# Altium footprint library Connector_PinHeader_2.00mm.PcbLib: 278 footprints (part 14 of 18)
Each footprint in its own frame and in the unit in brackets; x right, y up, seen from the top. Pads: shape width x height; smd on the part's side, far side on the other; paste and mask are expansions set on the pad; w line width, h text height; cw(c..) or ccw(c..) is an arc to the next point about the centre after c.
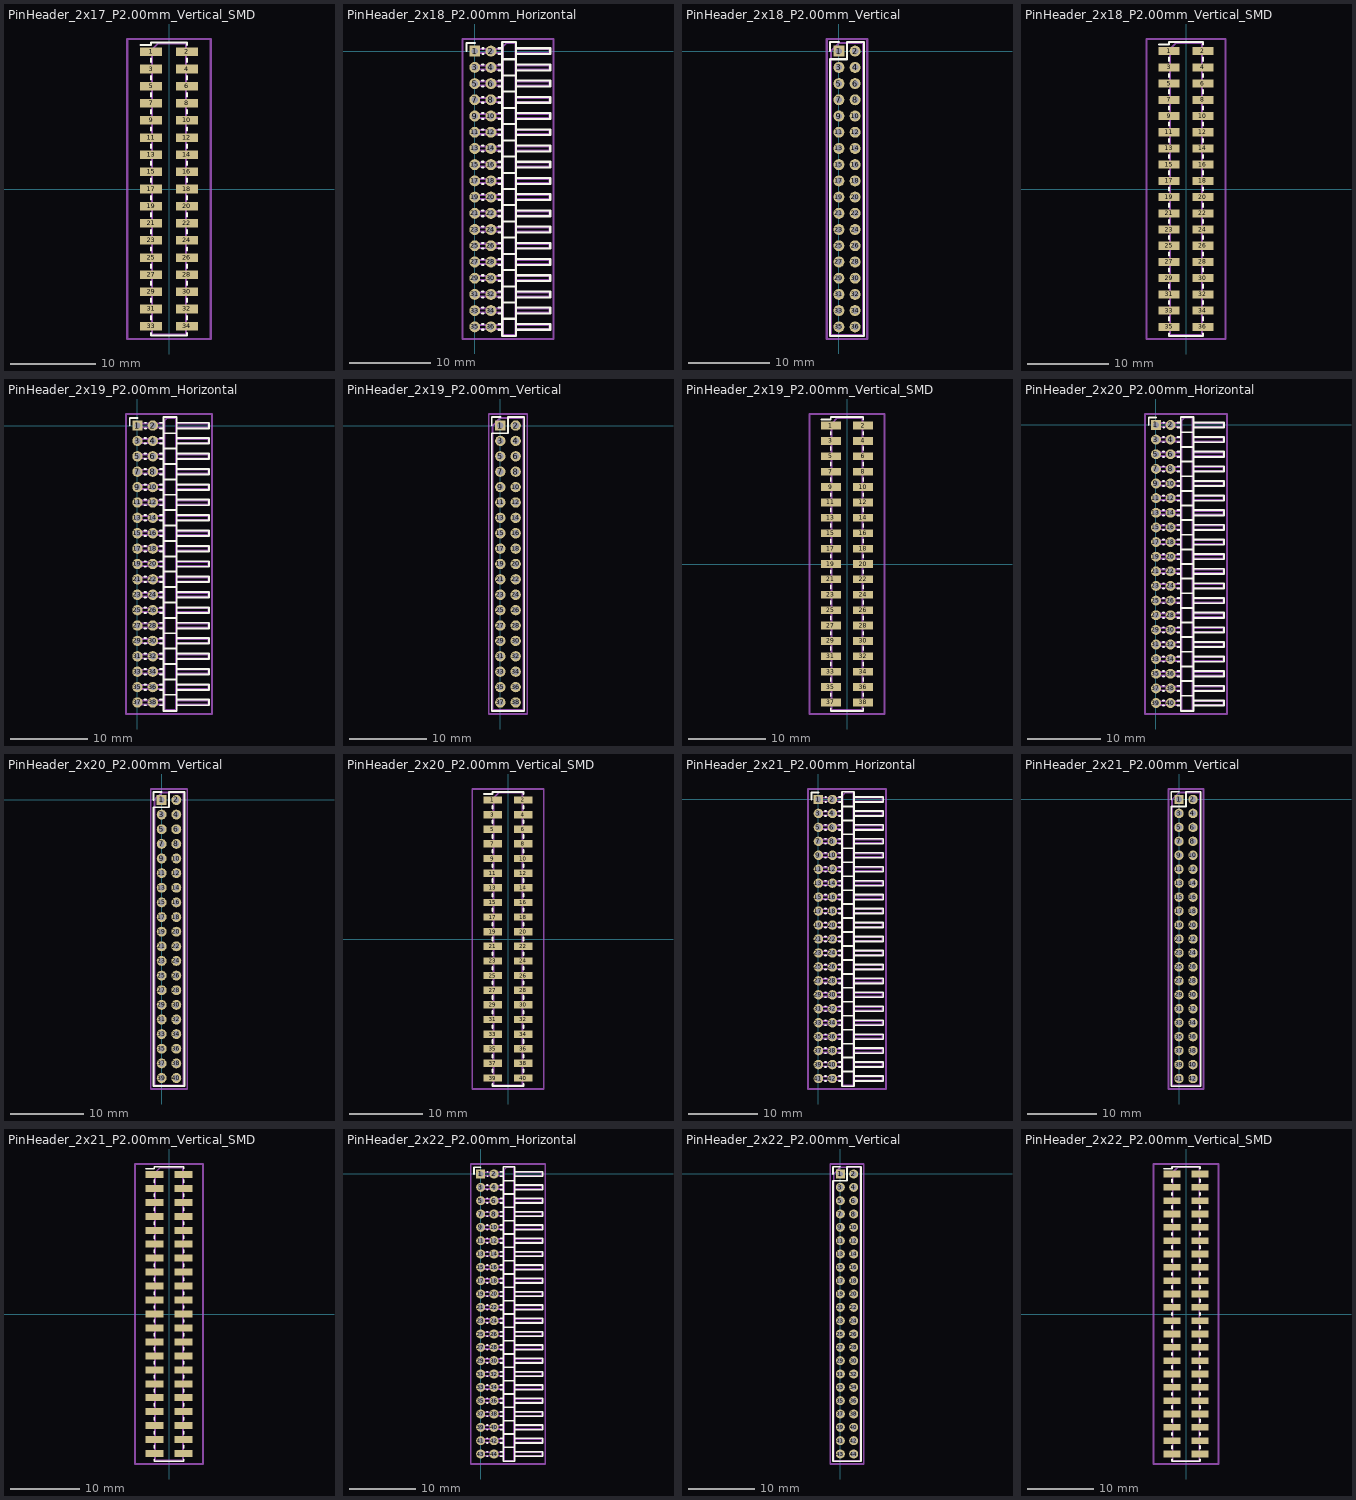
[diagram p13: the footprints below, top view; thin cyan lines are the x and y axes]

## PinHeader_2x17_P2.00mm_Vertical_SMD [mm]
pads (34):
  rect 2.58x1 smd: 1(-2.085,16) 2(2.085,16) 3(-2.085,14) 4(2.085,14) 5(-2.085,12) 6(2.085,12) 7(-2.085,10) 8(2.085,10) 9(-2.085,8) 10(2.085,8) 11(-2.085,6) 12(2.085,6) 13(-2.085,4) 14(2.085,4) 15(-2.085,2) 16(2.085,2) 17(-2.085,0) 18(2.085,0) 19(-2.085,-2) 20(2.085,-2) 21(-2.085,-4) 22(2.085,-4) 23(-2.085,-6) 24(2.085,-6) 25(-2.085,-8) 26(2.085,-8) 27(-2.085,-10) 28(2.085,-10) 29(-2.085,-12) 30(2.085,-12) 31(-2.085,-14) 32(2.085,-14) 33(-2.085,-16) 34(2.085,-16)
F.SilkS:
  lines w0.254: -3.315,16.81 -2.11,16.81 -2.11,17.11 2.11,17.11 2.11,16.81 ; -2.11,-16.81 -2.11,-17.11 2.11,-17.11 2.11,-16.81 ; -2.11,-15.19 -2.11,-14.81 ; -2.11,-13.19 -2.11,-12.81 ; -2.11,-11.19 -2.11,-10.81 ; -2.11,-9.19 -2.11,-8.81 ; -2.11,-7.19 -2.11,-6.81 ; -2.11,-5.19 -2.11,-4.81 ; -2.11,-3.19 -2.11,-2.81 ; -2.11,-1.19 -2.11,-0.81 ; -2.11,0.81 -2.11,1.19 ; -2.11,2.81 -2.11,3.19 ; -2.11,4.81 -2.11,5.19 ; -2.11,6.81 -2.11,7.19 ; -2.11,8.81 -2.11,9.19 ; -2.11,10.81 -2.11,11.19 ; -2.11,12.81 -2.11,13.19 ; -2.11,14.81 -2.11,15.19 ; 2.11,-15.19 2.11,-14.81 ; 2.11,-13.19 2.11,-12.81 ; 2.11,-11.19 2.11,-10.81 ; 2.11,-9.19 2.11,-8.81 ; 2.11,-7.19 2.11,-6.81 ; 2.11,-5.19 2.11,-4.81 ; 2.11,-3.19 2.11,-2.81 ; 2.11,-1.19 2.11,-0.81 ; 2.11,0.81 2.11,1.19 ; 2.11,2.81 2.11,3.19 ; 2.11,4.81 2.11,5.19 ; 2.11,6.81 2.11,7.19 ; 2.11,8.81 2.11,9.19 ; 2.11,10.81 2.11,11.19 ; 2.11,12.81 2.11,13.19 ; 2.11,14.81 2.11,15.19
Top Assembly:
  lines w0.254: -2,-16.25 -2.875,-16.25 -2.875,-15.75 -2,-15.75 ; -2,-14.25 -2.875,-14.25 -2.875,-13.75 -2,-13.75 ; -2,-12.25 -2.875,-12.25 -2.875,-11.75 -2,-11.75 ; -2,-10.25 -2.875,-10.25 -2.875,-9.75 -2,-9.75 ; -2,-8.25 -2.875,-8.25 -2.875,-7.75 -2,-7.75 ; -2,-6.25 -2.875,-6.25 -2.875,-5.75 -2,-5.75 ; -2,-4.25 -2.875,-4.25 -2.875,-3.75 -2,-3.75 ; -2,-2.25 -2.875,-2.25 -2.875,-1.75 -2,-1.75 ; -2,-0.25 -2.875,-0.25 -2.875,0.25 -2,0.25 ; -2,1.75 -2.875,1.75 -2.875,2.25 -2,2.25 ; -2,3.75 -2.875,3.75 -2.875,4.25 -2,4.25 ; -2,5.75 -2.875,5.75 -2.875,6.25 -2,6.25 ; -2,7.75 -2.875,7.75 -2.875,8.25 -2,8.25 ; -2,9.75 -2.875,9.75 -2.875,10.25 -2,10.25 ; -2,11.75 -2.875,11.75 -2.875,12.25 -2,12.25 ; -2,13.75 -2.875,13.75 -2.875,14.25 -2,14.25 ; -2,15.75 -2.875,15.75 -2.875,16.25 -2,16.25 ; 2,-16.25 2.875,-16.25 2.875,-15.75 2,-15.75 ; 2,-14.25 2.875,-14.25 2.875,-13.75 2,-13.75 ; 2,-12.25 2.875,-12.25 2.875,-11.75 2,-11.75 ; 2,-10.25 2.875,-10.25 2.875,-9.75 2,-9.75 ; 2,-8.25 2.875,-8.25 2.875,-7.75 2,-7.75 ; 2,-6.25 2.875,-6.25 2.875,-5.75 2,-5.75 ; 2,-4.25 2.875,-4.25 2.875,-3.75 2,-3.75 ; 2,-2.25 2.875,-2.25 2.875,-1.75 2,-1.75 ; 2,-0.25 2.875,-0.25 2.875,0.25 2,0.25 ; 2,1.75 2.875,1.75 2.875,2.25 2,2.25 ; 2,3.75 2.875,3.75 2.875,4.25 2,4.25 ; 2,5.75 2.875,5.75 2.875,6.25 2,6.25 ; 2,7.75 2.875,7.75 2.875,8.25 2,8.25 ; 2,9.75 2.875,9.75 2.875,10.25 2,10.25 ; 2,11.75 2.875,11.75 2.875,12.25 2,12.25 ; 2,13.75 2.875,13.75 2.875,14.25 2,14.25 ; 2,15.75 2.875,15.75 2.875,16.25 2,16.25 ; -2,16.25 -2,-17 2,-17 2,17 -1.25,17 -2,16.25
  text "'.Designator'" at 0.84,-4.047 h1
Top Courtyard:
  lines w0.254: -4.88,-17.5 4.88,-17.5 4.88,17.5 -4.88,17.5 -4.88,-17.5
Top Designator:
  text ".Designator" at -7.618,-0.508 h1.52

## PinHeader_2x18_P2.00mm_Horizontal [mm]
pads (36):
  rect 1.35x1.35 hole 0.8: 1(0,0)
  round 1.35 hole 0.8: 2(2,0) 3(0,-2) 4(2,-2) 5(0,-4) 6(2,-4) 7(0,-6) 8(2,-6) 9(0,-8) 10(2,-8) 11(0,-10) 12(2,-10) 13(0,-12) 14(2,-12) 15(0,-14) 16(2,-14) 17(0,-16) 18(2,-16) 19(0,-18) 20(2,-18) 21(0,-20) 22(2,-20) 23(0,-22) 24(2,-22) 25(0,-24) 26(2,-24) 27(0,-26) 28(2,-26) 29(0,-28) 30(2,-28) 31(0,-30) 32(2,-30) 33(0,-32) 34(2,-32) 35(0,-34) 36(2,-34)
F.SilkS:
  lines w0.254: -1,0 -1,1 0,1 ; 0.917,-34.36 1.083,-34.36 ; 0.917,-33.64 1.083,-33.64 ; 0.917,-32.36 1.083,-32.36 ; 0.917,-31.64 1.083,-31.64 ; 0.917,-30.36 1.083,-30.36 ; 0.917,-29.64 1.083,-29.64 ; 0.917,-28.36 1.083,-28.36 ; 0.917,-27.64 1.083,-27.64 ; 0.917,-26.36 1.083,-26.36 ; 0.917,-25.64 1.083,-25.64 ; 0.917,-24.36 1.083,-24.36 ; 0.917,-23.64 1.083,-23.64 ; 0.917,-22.36 1.083,-22.36 ; 0.917,-21.64 1.083,-21.64 ; 0.917,-20.36 1.083,-20.36 ; 0.917,-19.64 1.083,-19.64 ; 0.917,-18.36 1.083,-18.36 ; 0.917,-17.64 1.083,-17.64 ; 0.917,-16.36 1.083,-16.36 ; 0.917,-15.64 1.083,-15.64 ; 0.917,-14.36 1.083,-14.36 ; 0.917,-13.64 1.083,-13.64 ; 0.917,-12.36 1.083,-12.36 ; 0.917,-11.64 1.083,-11.64 ; 0.917,-10.36 1.083,-10.36 ; 0.917,-9.64 1.083,-9.64 ; 0.917,-8.36 1.083,-8.36 ; 0.917,-7.64 1.083,-7.64 ; 0.917,-6.36 1.083,-6.36 ; 0.917,-5.64 1.083,-5.64 ; 0.917,-4.36 1.083,-4.36 ; 0.917,-3.64 1.083,-3.64 ; 0.917,-2.36 1.083,-2.36 ; 0.917,-1.64 1.083,-1.64 ; 0.985,-0.36 1.083,-0.36 ; 0.985,0.36 1.083,0.36 ; 2.917,-34.36 3.39,-34.36 ; 2.917,-33.64 3.39,-33.64 ; 2.917,-32.36 3.39,-32.36 ; 2.917,-31.64 3.39,-31.64 ; 2.917,-30.36 3.39,-30.36 ; 2.917,-29.64 3.39,-29.64 ; 2.917,-28.36 3.39,-28.36 ; 2.917,-27.64 3.39,-27.64 ; 2.917,-26.36 3.39,-26.36 ; 2.917,-25.64 3.39,-25.64 ; 2.917,-24.36 3.39,-24.36 ; 2.917,-23.64 3.39,-23.64 ; 2.917,-22.36 3.39,-22.36 ; 2.917,-21.64 3.39,-21.64 ; 2.917,-20.36 3.39,-20.36 ; 2.917,-19.64 3.39,-19.64 ; 2.917,-18.36 3.39,-18.36 ; 2.917,-17.64 3.39,-17.64 ; 2.917,-16.36 3.39,-16.36 ; 2.917,-15.64 3.39,-15.64 ; 2.917,-14.36 3.39,-14.36 ; 2.917,-13.64 3.39,-13.64 ; 2.917,-12.36 3.39,-12.36 ; 2.917,-11.64 3.39,-11.64 ; 2.917,-10.36 3.39,-10.36 ; 2.917,-9.64 3.39,-9.64 ; 2.917,-8.36 3.39,-8.36 ; 2.917,-7.64 3.39,-7.64 ; 2.917,-6.36 3.39,-6.36 ; 2.917,-5.64 3.39,-5.64 ; 2.917,-4.36 3.39,-4.36 ; 2.917,-3.64 3.39,-3.64 ; 2.917,-2.36 3.39,-2.36 ; 2.917,-1.64 3.39,-1.64 ; 2.917,-0.36 3.39,-0.36 ; 2.917,0.36 3.39,0.36 ; 3.39,-33 5.11,-33 ; 3.39,-31 5.11,-31 ; 3.39,-29 5.11,-29 ; 3.39,-27 5.11,-27 ; 3.39,-25 5.11,-25 ; 3.39,-23 5.11,-23 ; 3.39,-21 5.11,-21 ; 3.39,-19 5.11,-19 ; 3.39,-17 5.11,-17 ; 3.39,-15 5.11,-15 ; 3.39,-13 5.11,-13 ; 3.39,-11 5.11,-11 ; 3.39,-9 5.11,-9 ; 3.39,-7 5.11,-7 ; 3.39,-5 5.11,-5 ; 3.39,-3 5.11,-3 ; 3.39,-1 5.11,-1 ; 5.11,-34.36 9.31,-34.36 9.31,-33.64 5.11,-33.64 ; 5.11,-32.36 9.31,-32.36 9.31,-31.64 5.11,-31.64 ; 5.11,-30.36 9.31,-30.36 9.31,-29.64 5.11,-29.64 ; 5.11,-28.36 9.31,-28.36 9.31,-27.64 5.11,-27.64 ; 5.11,-26.36 9.31,-26.36 9.31,-25.64 5.11,-25.64 ; 5.11,-24.36 9.31,-24.36 9.31,-23.64 5.11,-23.64 ; 5.11,-22.36 9.31,-22.36 9.31,-21.64 5.11,-21.64 ; 5.11,-20.36 9.31,-20.36 9.31,-19.64 5.11,-19.64 ; 5.11,-18.36 9.31,-18.36 9.31,-17.64 5.11,-17.64 ; 5.11,-16.36 9.31,-16.36 9.31,-15.64 5.11,-15.64 ; 5.11,-14.36 9.31,-14.36 9.31,-13.64 5.11,-13.64 ; 5.11,-12.36 9.31,-12.36 9.31,-11.64 5.11,-11.64 ; 5.11,-10.36 9.31,-10.36 9.31,-9.64 5.11,-9.64 ; 5.11,-8.36 9.31,-8.36 9.31,-7.64 5.11,-7.64 ; 5.11,-6.36 9.31,-6.36 9.31,-5.64 5.11,-5.64 ; 5.11,-4.36 9.31,-4.36 9.31,-3.64 5.11,-3.64 ; 5.11,-2.36 9.31,-2.36 9.31,-1.64 5.11,-1.64 ; 3.39,-35.11 5.11,-35.11 5.11,1.11 3.39,1.11 3.39,-35.11 ; 5.11,-0.36 9.31,-0.36 9.31,0.36 5.11,0.36 5.11,-0.36
Top Assembly:
  lines w0.254: 3.5,-34.25 -0.25,-34.25 -0.25,-33.75 3.5,-33.75 ; 3.5,-32.25 -0.25,-32.25 -0.25,-31.75 3.5,-31.75 ; 3.5,-30.25 -0.25,-30.25 -0.25,-29.75 3.5,-29.75 ; 3.5,-28.25 -0.25,-28.25 -0.25,-27.75 3.5,-27.75 ; 3.5,-26.25 -0.25,-26.25 -0.25,-25.75 3.5,-25.75 ; 3.5,-24.25 -0.25,-24.25 -0.25,-23.75 3.5,-23.75 ; 3.5,-22.25 -0.25,-22.25 -0.25,-21.75 3.5,-21.75 ; 3.5,-20.25 -0.25,-20.25 -0.25,-19.75 3.5,-19.75 ; 3.5,-18.25 -0.25,-18.25 -0.25,-17.75 3.5,-17.75 ; 3.5,-16.25 -0.25,-16.25 -0.25,-15.75 3.5,-15.75 ; 3.5,-14.25 -0.25,-14.25 -0.25,-13.75 3.5,-13.75 ; 3.5,-12.25 -0.25,-12.25 -0.25,-11.75 3.5,-11.75 ; 3.5,-10.25 -0.25,-10.25 -0.25,-9.75 3.5,-9.75 ; 3.5,-8.25 -0.25,-8.25 -0.25,-7.75 3.5,-7.75 ; 3.5,-6.25 -0.25,-6.25 -0.25,-5.75 3.5,-5.75 ; 3.5,-4.25 -0.25,-4.25 -0.25,-3.75 3.5,-3.75 ; 3.5,-2.25 -0.25,-2.25 -0.25,-1.75 3.5,-1.75 ; 3.5,-0.25 -0.25,-0.25 -0.25,0.25 3.5,0.25 ; 5,-34.25 9.2,-34.25 9.2,-33.75 5,-33.75 ; 5,-32.25 9.2,-32.25 9.2,-31.75 5,-31.75 ; 5,-30.25 9.2,-30.25 9.2,-29.75 5,-29.75 ; 5,-28.25 9.2,-28.25 9.2,-27.75 5,-27.75 ; 5,-26.25 9.2,-26.25 9.2,-25.75 5,-25.75 ; 5,-24.25 9.2,-24.25 9.2,-23.75 5,-23.75 ; 5,-22.25 9.2,-22.25 9.2,-21.75 5,-21.75 ; 5,-20.25 9.2,-20.25 9.2,-19.75 5,-19.75 ; 5,-18.25 9.2,-18.25 9.2,-17.75 5,-17.75 ; 5,-16.25 9.2,-16.25 9.2,-15.75 5,-15.75 ; 5,-14.25 9.2,-14.25 9.2,-13.75 5,-13.75 ; 5,-12.25 9.2,-12.25 9.2,-11.75 5,-11.75 ; 5,-10.25 9.2,-10.25 9.2,-9.75 5,-9.75 ; 5,-8.25 9.2,-8.25 9.2,-7.75 5,-7.75 ; 5,-6.25 9.2,-6.25 9.2,-5.75 5,-5.75 ; 5,-4.25 9.2,-4.25 9.2,-3.75 5,-3.75 ; 5,-2.25 9.2,-2.25 9.2,-1.75 5,-1.75 ; 5,-0.25 9.2,-0.25 9.2,0.25 5,0.25 ; 3.5,-35 5,-35 5,1 3.875,1 3.5,0.625 3.5,-35
  text "'.Designator'" at 5.006,-20.642 h0.9
Top Courtyard:
  lines w0.254: -1.5,-35.5 9.7,-35.5 9.7,1.5 -1.5,1.5 -1.5,-35.5
Top Designator:
  text ".Designator" at -3.518,-17.508 h1.52

## PinHeader_2x18_P2.00mm_Vertical [mm]
pads (36):
  rect 1.35x1.35 hole 0.8: 1(0,0)
  round 1.35 hole 0.8: 2(2,0) 3(0,-2) 4(2,-2) 5(0,-4) 6(2,-4) 7(0,-6) 8(2,-6) 9(0,-8) 10(2,-8) 11(0,-10) 12(2,-10) 13(0,-12) 14(2,-12) 15(0,-14) 16(2,-14) 17(0,-16) 18(2,-16) 19(0,-18) 20(2,-18) 21(0,-20) 22(2,-20) 23(0,-22) 24(2,-22) 25(0,-24) 26(2,-24) 27(0,-26) 28(2,-26) 29(0,-28) 30(2,-28) 31(0,-30) 32(2,-30) 33(0,-32) 34(2,-32) 35(0,-34) 36(2,-34)
F.SilkS:
  lines w0.254: -1.11,0 -1.11,1.11 0,1.11 ; -1.11,-35.11 3.11,-35.11 3.11,1.11 1,1.11 1,-1 -1.11,-1 -1.11,-35.11
Top Assembly:
  lines w0.254: -1,-35 3,-35 3,1 0,1 -1,0 -1,-35
  text "'.Designator'" at 1.84,-21.047 h1
Top Courtyard:
  lines w0.254: -1.5,-35.5 3.5,-35.5 3.5,1.5 -1.5,1.5 -1.5,-35.5
Top Designator:
  text ".Designator" at -6.618,-17.508 h1.52

## PinHeader_2x18_P2.00mm_Vertical_SMD [mm]
pads (36):
  rect 2.58x1 smd: 1(-2.085,17) 2(2.085,17) 3(-2.085,15) 4(2.085,15) 5(-2.085,13) 6(2.085,13) 7(-2.085,11) 8(2.085,11) 9(-2.085,9) 10(2.085,9) 11(-2.085,7) 12(2.085,7) 13(-2.085,5) 14(2.085,5) 15(-2.085,3) 16(2.085,3) 17(-2.085,1) 18(2.085,1) 19(-2.085,-1) 20(2.085,-1) 21(-2.085,-3) 22(2.085,-3) 23(-2.085,-5) 24(2.085,-5) 25(-2.085,-7) 26(2.085,-7) 27(-2.085,-9) 28(2.085,-9) 29(-2.085,-11) 30(2.085,-11) 31(-2.085,-13) 32(2.085,-13) 33(-2.085,-15) 34(2.085,-15) 35(-2.085,-17) 36(2.085,-17)
F.SilkS:
  lines w0.254: -3.315,17.81 -2.11,17.81 -2.11,18.11 2.11,18.11 2.11,17.81 ; -2.11,-17.81 -2.11,-18.11 2.11,-18.11 2.11,-17.81 ; -2.11,-16.19 -2.11,-15.81 ; -2.11,-14.19 -2.11,-13.81 ; -2.11,-12.19 -2.11,-11.81 ; -2.11,-10.19 -2.11,-9.81 ; -2.11,-8.19 -2.11,-7.81 ; -2.11,-6.19 -2.11,-5.81 ; -2.11,-4.19 -2.11,-3.81 ; -2.11,-2.19 -2.11,-1.81 ; -2.11,-0.19 -2.11,0.19 ; -2.11,1.81 -2.11,2.19 ; -2.11,3.81 -2.11,4.19 ; -2.11,5.81 -2.11,6.19 ; -2.11,7.81 -2.11,8.19 ; -2.11,9.81 -2.11,10.19 ; -2.11,11.81 -2.11,12.19 ; -2.11,13.81 -2.11,14.19 ; -2.11,15.81 -2.11,16.19 ; 2.11,-16.19 2.11,-15.81 ; 2.11,-14.19 2.11,-13.81 ; 2.11,-12.19 2.11,-11.81 ; 2.11,-10.19 2.11,-9.81 ; 2.11,-8.19 2.11,-7.81 ; 2.11,-6.19 2.11,-5.81 ; 2.11,-4.19 2.11,-3.81 ; 2.11,-2.19 2.11,-1.81 ; 2.11,-0.19 2.11,0.19 ; 2.11,1.81 2.11,2.19 ; 2.11,3.81 2.11,4.19 ; 2.11,5.81 2.11,6.19 ; 2.11,7.81 2.11,8.19 ; 2.11,9.81 2.11,10.19 ; 2.11,11.81 2.11,12.19 ; 2.11,13.81 2.11,14.19 ; 2.11,15.81 2.11,16.19
Top Assembly:
  lines w0.254: -2,-17.25 -2.875,-17.25 -2.875,-16.75 -2,-16.75 ; -2,-15.25 -2.875,-15.25 -2.875,-14.75 -2,-14.75 ; -2,-13.25 -2.875,-13.25 -2.875,-12.75 -2,-12.75 ; -2,-11.25 -2.875,-11.25 -2.875,-10.75 -2,-10.75 ; -2,-9.25 -2.875,-9.25 -2.875,-8.75 -2,-8.75 ; -2,-7.25 -2.875,-7.25 -2.875,-6.75 -2,-6.75 ; -2,-5.25 -2.875,-5.25 -2.875,-4.75 -2,-4.75 ; -2,-3.25 -2.875,-3.25 -2.875,-2.75 -2,-2.75 ; -2,-1.25 -2.875,-1.25 -2.875,-0.75 -2,-0.75 ; -2,0.75 -2.875,0.75 -2.875,1.25 -2,1.25 ; -2,2.75 -2.875,2.75 -2.875,3.25 -2,3.25 ; -2,4.75 -2.875,4.75 -2.875,5.25 -2,5.25 ; -2,6.75 -2.875,6.75 -2.875,7.25 -2,7.25 ; -2,8.75 -2.875,8.75 -2.875,9.25 -2,9.25 ; -2,10.75 -2.875,10.75 -2.875,11.25 -2,11.25 ; -2,12.75 -2.875,12.75 -2.875,13.25 -2,13.25 ; -2,14.75 -2.875,14.75 -2.875,15.25 -2,15.25 ; -2,16.75 -2.875,16.75 -2.875,17.25 -2,17.25 ; 2,-17.25 2.875,-17.25 2.875,-16.75 2,-16.75 ; 2,-15.25 2.875,-15.25 2.875,-14.75 2,-14.75 ; 2,-13.25 2.875,-13.25 2.875,-12.75 2,-12.75 ; 2,-11.25 2.875,-11.25 2.875,-10.75 2,-10.75 ; 2,-9.25 2.875,-9.25 2.875,-8.75 2,-8.75 ; 2,-7.25 2.875,-7.25 2.875,-6.75 2,-6.75 ; 2,-5.25 2.875,-5.25 2.875,-4.75 2,-4.75 ; 2,-3.25 2.875,-3.25 2.875,-2.75 2,-2.75 ; 2,-1.25 2.875,-1.25 2.875,-0.75 2,-0.75 ; 2,0.75 2.875,0.75 2.875,1.25 2,1.25 ; 2,2.75 2.875,2.75 2.875,3.25 2,3.25 ; 2,4.75 2.875,4.75 2.875,5.25 2,5.25 ; 2,6.75 2.875,6.75 2.875,7.25 2,7.25 ; 2,8.75 2.875,8.75 2.875,9.25 2,9.25 ; 2,10.75 2.875,10.75 2.875,11.25 2,11.25 ; 2,12.75 2.875,12.75 2.875,13.25 2,13.25 ; 2,14.75 2.875,14.75 2.875,15.25 2,15.25 ; 2,16.75 2.875,16.75 2.875,17.25 2,17.25 ; -2,17.25 -2,-18 2,-18 2,18 -1.25,18 -2,17.25
  text "'.Designator'" at 0.84,-4.047 h1
Top Courtyard:
  lines w0.254: -4.88,-18.5 4.88,-18.5 4.88,18.5 -4.88,18.5 -4.88,-18.5
Top Designator:
  text ".Designator" at -7.618,-0.508 h1.52

## PinHeader_2x19_P2.00mm_Horizontal [mm]
pads (38):
  rect 1.35x1.35 hole 0.8: 1(0,0)
  round 1.35 hole 0.8: 2(2,0) 3(0,-2) 4(2,-2) 5(0,-4) 6(2,-4) 7(0,-6) 8(2,-6) 9(0,-8) 10(2,-8) 11(0,-10) 12(2,-10) 13(0,-12) 14(2,-12) 15(0,-14) 16(2,-14) 17(0,-16) 18(2,-16) 19(0,-18) 20(2,-18) 21(0,-20) 22(2,-20) 23(0,-22) 24(2,-22) 25(0,-24) 26(2,-24) 27(0,-26) 28(2,-26) 29(0,-28) 30(2,-28) 31(0,-30) 32(2,-30) 33(0,-32) 34(2,-32) 35(0,-34) 36(2,-34) 37(0,-36) 38(2,-36)
F.SilkS:
  drawing of 158 lines, arcs and shapes, not listed
Top Assembly:
  lines w0.254: 3.5,-36.25 -0.25,-36.25 -0.25,-35.75 3.5,-35.75 ; 3.5,-34.25 -0.25,-34.25 -0.25,-33.75 3.5,-33.75 ; 3.5,-32.25 -0.25,-32.25 -0.25,-31.75 3.5,-31.75 ; 3.5,-30.25 -0.25,-30.25 -0.25,-29.75 3.5,-29.75 ; 3.5,-28.25 -0.25,-28.25 -0.25,-27.75 3.5,-27.75 ; 3.5,-26.25 -0.25,-26.25 -0.25,-25.75 3.5,-25.75 ; 3.5,-24.25 -0.25,-24.25 -0.25,-23.75 3.5,-23.75 ; 3.5,-22.25 -0.25,-22.25 -0.25,-21.75 3.5,-21.75 ; 3.5,-20.25 -0.25,-20.25 -0.25,-19.75 3.5,-19.75 ; 3.5,-18.25 -0.25,-18.25 -0.25,-17.75 3.5,-17.75 ; 3.5,-16.25 -0.25,-16.25 -0.25,-15.75 3.5,-15.75 ; 3.5,-14.25 -0.25,-14.25 -0.25,-13.75 3.5,-13.75 ; 3.5,-12.25 -0.25,-12.25 -0.25,-11.75 3.5,-11.75 ; 3.5,-10.25 -0.25,-10.25 -0.25,-9.75 3.5,-9.75 ; 3.5,-8.25 -0.25,-8.25 -0.25,-7.75 3.5,-7.75 ; 3.5,-6.25 -0.25,-6.25 -0.25,-5.75 3.5,-5.75 ; 3.5,-4.25 -0.25,-4.25 -0.25,-3.75 3.5,-3.75 ; 3.5,-2.25 -0.25,-2.25 -0.25,-1.75 3.5,-1.75 ; 3.5,-0.25 -0.25,-0.25 -0.25,0.25 3.5,0.25 ; 5,-36.25 9.2,-36.25 9.2,-35.75 5,-35.75 ; 5,-34.25 9.2,-34.25 9.2,-33.75 5,-33.75 ; 5,-32.25 9.2,-32.25 9.2,-31.75 5,-31.75 ; 5,-30.25 9.2,-30.25 9.2,-29.75 5,-29.75 ; 5,-28.25 9.2,-28.25 9.2,-27.75 5,-27.75 ; 5,-26.25 9.2,-26.25 9.2,-25.75 5,-25.75 ; 5,-24.25 9.2,-24.25 9.2,-23.75 5,-23.75 ; 5,-22.25 9.2,-22.25 9.2,-21.75 5,-21.75 ; 5,-20.25 9.2,-20.25 9.2,-19.75 5,-19.75 ; 5,-18.25 9.2,-18.25 9.2,-17.75 5,-17.75 ; 5,-16.25 9.2,-16.25 9.2,-15.75 5,-15.75 ; 5,-14.25 9.2,-14.25 9.2,-13.75 5,-13.75 ; 5,-12.25 9.2,-12.25 9.2,-11.75 5,-11.75 ; 5,-10.25 9.2,-10.25 9.2,-9.75 5,-9.75 ; 5,-8.25 9.2,-8.25 9.2,-7.75 5,-7.75 ; 5,-6.25 9.2,-6.25 9.2,-5.75 5,-5.75 ; 5,-4.25 9.2,-4.25 9.2,-3.75 5,-3.75 ; 5,-2.25 9.2,-2.25 9.2,-1.75 5,-1.75 ; 5,-0.25 9.2,-0.25 9.2,0.25 5,0.25 ; 3.5,-37 5,-37 5,1 3.875,1 3.5,0.625 3.5,-37
  text "'.Designator'" at 5.006,-21.642 h0.9
Top Courtyard:
  lines w0.254: -1.5,-37.5 9.7,-37.5 9.7,1.5 -1.5,1.5 -1.5,-37.5
Top Designator:
  text ".Designator" at -3.518,-18.508 h1.52

## PinHeader_2x19_P2.00mm_Vertical [mm]
pads (38):
  rect 1.35x1.35 hole 0.8: 1(0,0)
  round 1.35 hole 0.8: 2(2,0) 3(0,-2) 4(2,-2) 5(0,-4) 6(2,-4) 7(0,-6) 8(2,-6) 9(0,-8) 10(2,-8) 11(0,-10) 12(2,-10) 13(0,-12) 14(2,-12) 15(0,-14) 16(2,-14) 17(0,-16) 18(2,-16) 19(0,-18) 20(2,-18) 21(0,-20) 22(2,-20) 23(0,-22) 24(2,-22) 25(0,-24) 26(2,-24) 27(0,-26) 28(2,-26) 29(0,-28) 30(2,-28) 31(0,-30) 32(2,-30) 33(0,-32) 34(2,-32) 35(0,-34) 36(2,-34) 37(0,-36) 38(2,-36)
F.SilkS:
  lines w0.254: -1.11,0 -1.11,1.11 0,1.11 ; -1.11,-37.11 3.11,-37.11 3.11,1.11 1,1.11 1,-1 -1.11,-1 -1.11,-37.11
Top Assembly:
  lines w0.254: -1,-37 3,-37 3,1 0,1 -1,0 -1,-37
  text "'.Designator'" at 1.84,-22.047 h1
Top Courtyard:
  lines w0.254: -1.5,-37.5 3.5,-37.5 3.5,1.5 -1.5,1.5 -1.5,-37.5
Top Designator:
  text ".Designator" at -6.618,-18.508 h1.52

## PinHeader_2x19_P2.00mm_Vertical_SMD [mm]
pads (38):
  rect 2.58x1 smd: 1(-2.085,18) 2(2.085,18) 3(-2.085,16) 4(2.085,16) 5(-2.085,14) 6(2.085,14) 7(-2.085,12) 8(2.085,12) 9(-2.085,10) 10(2.085,10) 11(-2.085,8) 12(2.085,8) 13(-2.085,6) 14(2.085,6) 15(-2.085,4) 16(2.085,4) 17(-2.085,2) 18(2.085,2) 19(-2.085,0) 20(2.085,0) 21(-2.085,-2) 22(2.085,-2) 23(-2.085,-4) 24(2.085,-4) 25(-2.085,-6) 26(2.085,-6) 27(-2.085,-8) 28(2.085,-8) 29(-2.085,-10) 30(2.085,-10) 31(-2.085,-12) 32(2.085,-12) 33(-2.085,-14) 34(2.085,-14) 35(-2.085,-16) 36(2.085,-16) 37(-2.085,-18) 38(2.085,-18)
F.SilkS:
  lines w0.254: -3.315,18.81 -2.11,18.81 -2.11,19.11 2.11,19.11 2.11,18.81 ; -2.11,-18.81 -2.11,-19.11 2.11,-19.11 2.11,-18.81 ; -2.11,-17.19 -2.11,-16.81 ; -2.11,-15.19 -2.11,-14.81 ; -2.11,-13.19 -2.11,-12.81 ; -2.11,-11.19 -2.11,-10.81 ; -2.11,-9.19 -2.11,-8.81 ; -2.11,-7.19 -2.11,-6.81 ; -2.11,-5.19 -2.11,-4.81 ; -2.11,-3.19 -2.11,-2.81 ; -2.11,-1.19 -2.11,-0.81 ; -2.11,0.81 -2.11,1.19 ; -2.11,2.81 -2.11,3.19 ; -2.11,4.81 -2.11,5.19 ; -2.11,6.81 -2.11,7.19 ; -2.11,8.81 -2.11,9.19 ; -2.11,10.81 -2.11,11.19 ; -2.11,12.81 -2.11,13.19 ; -2.11,14.81 -2.11,15.19 ; -2.11,16.81 -2.11,17.19 ; 2.11,-17.19 2.11,-16.81 ; 2.11,-15.19 2.11,-14.81 ; 2.11,-13.19 2.11,-12.81 ; 2.11,-11.19 2.11,-10.81 ; 2.11,-9.19 2.11,-8.81 ; 2.11,-7.19 2.11,-6.81 ; 2.11,-5.19 2.11,-4.81 ; 2.11,-3.19 2.11,-2.81 ; 2.11,-1.19 2.11,-0.81 ; 2.11,0.81 2.11,1.19 ; 2.11,2.81 2.11,3.19 ; 2.11,4.81 2.11,5.19 ; 2.11,6.81 2.11,7.19 ; 2.11,8.81 2.11,9.19 ; 2.11,10.81 2.11,11.19 ; 2.11,12.81 2.11,13.19 ; 2.11,14.81 2.11,15.19 ; 2.11,16.81 2.11,17.19
Top Assembly:
  lines w0.254: -2,-18.25 -2.875,-18.25 -2.875,-17.75 -2,-17.75 ; -2,-16.25 -2.875,-16.25 -2.875,-15.75 -2,-15.75 ; -2,-14.25 -2.875,-14.25 -2.875,-13.75 -2,-13.75 ; -2,-12.25 -2.875,-12.25 -2.875,-11.75 -2,-11.75 ; -2,-10.25 -2.875,-10.25 -2.875,-9.75 -2,-9.75 ; -2,-8.25 -2.875,-8.25 -2.875,-7.75 -2,-7.75 ; -2,-6.25 -2.875,-6.25 -2.875,-5.75 -2,-5.75 ; -2,-4.25 -2.875,-4.25 -2.875,-3.75 -2,-3.75 ; -2,-2.25 -2.875,-2.25 -2.875,-1.75 -2,-1.75 ; -2,-0.25 -2.875,-0.25 -2.875,0.25 -2,0.25 ; -2,1.75 -2.875,1.75 -2.875,2.25 -2,2.25 ; -2,3.75 -2.875,3.75 -2.875,4.25 -2,4.25 ; -2,5.75 -2.875,5.75 -2.875,6.25 -2,6.25 ; -2,7.75 -2.875,7.75 -2.875,8.25 -2,8.25 ; -2,9.75 -2.875,9.75 -2.875,10.25 -2,10.25 ; -2,11.75 -2.875,11.75 -2.875,12.25 -2,12.25 ; -2,13.75 -2.875,13.75 -2.875,14.25 -2,14.25 ; -2,15.75 -2.875,15.75 -2.875,16.25 -2,16.25 ; -2,17.75 -2.875,17.75 -2.875,18.25 -2,18.25 ; 2,-18.25 2.875,-18.25 2.875,-17.75 2,-17.75 ; 2,-16.25 2.875,-16.25 2.875,-15.75 2,-15.75 ; 2,-14.25 2.875,-14.25 2.875,-13.75 2,-13.75 ; 2,-12.25 2.875,-12.25 2.875,-11.75 2,-11.75 ; 2,-10.25 2.875,-10.25 2.875,-9.75 2,-9.75 ; 2,-8.25 2.875,-8.25 2.875,-7.75 2,-7.75 ; 2,-6.25 2.875,-6.25 2.875,-5.75 2,-5.75 ; 2,-4.25 2.875,-4.25 2.875,-3.75 2,-3.75 ; 2,-2.25 2.875,-2.25 2.875,-1.75 2,-1.75 ; 2,-0.25 2.875,-0.25 2.875,0.25 2,0.25 ; 2,1.75 2.875,1.75 2.875,2.25 2,2.25 ; 2,3.75 2.875,3.75 2.875,4.25 2,4.25 ; 2,5.75 2.875,5.75 2.875,6.25 2,6.25 ; 2,7.75 2.875,7.75 2.875,8.25 2,8.25 ; 2,9.75 2.875,9.75 2.875,10.25 2,10.25 ; 2,11.75 2.875,11.75 2.875,12.25 2,12.25 ; 2,13.75 2.875,13.75 2.875,14.25 2,14.25 ; 2,15.75 2.875,15.75 2.875,16.25 2,16.25 ; 2,17.75 2.875,17.75 2.875,18.25 2,18.25 ; -2,18.25 -2,-19 2,-19 2,19 -1.25,19 -2,18.25
  text "'.Designator'" at 0.84,-4.047 h1
Top Courtyard:
  lines w0.254: -4.88,-19.5 4.88,-19.5 4.88,19.5 -4.88,19.5 -4.88,-19.5
Top Designator:
  text ".Designator" at -7.618,-0.508 h1.52

## PinHeader_2x20_P2.00mm_Horizontal [mm]
pads (40):
  rect 1.35x1.35 hole 0.8: 1(0,0)
  round 1.35 hole 0.8: 2(2,0) 3(0,-2) 4(2,-2) 5(0,-4) 6(2,-4) 7(0,-6) 8(2,-6) 9(0,-8) 10(2,-8) 11(0,-10) 12(2,-10) 13(0,-12) 14(2,-12) 15(0,-14) 16(2,-14) 17(0,-16) 18(2,-16) 19(0,-18) 20(2,-18) 21(0,-20) 22(2,-20) 23(0,-22) 24(2,-22) 25(0,-24) 26(2,-24) 27(0,-26) 28(2,-26) 29(0,-28) 30(2,-28) 31(0,-30) 32(2,-30) 33(0,-32) 34(2,-32) 35(0,-34) 36(2,-34) 37(0,-36) 38(2,-36) 39(0,-38) 40(2,-38)
F.SilkS:
  drawing of 166 lines, arcs and shapes, not listed
Top Assembly:
  lines w0.254: 3.5,-38.25 -0.25,-38.25 -0.25,-37.75 3.5,-37.75 ; 3.5,-36.25 -0.25,-36.25 -0.25,-35.75 3.5,-35.75 ; 3.5,-34.25 -0.25,-34.25 -0.25,-33.75 3.5,-33.75 ; 3.5,-32.25 -0.25,-32.25 -0.25,-31.75 3.5,-31.75 ; 3.5,-30.25 -0.25,-30.25 -0.25,-29.75 3.5,-29.75 ; 3.5,-28.25 -0.25,-28.25 -0.25,-27.75 3.5,-27.75 ; 3.5,-26.25 -0.25,-26.25 -0.25,-25.75 3.5,-25.75 ; 3.5,-24.25 -0.25,-24.25 -0.25,-23.75 3.5,-23.75 ; 3.5,-22.25 -0.25,-22.25 -0.25,-21.75 3.5,-21.75 ; 3.5,-20.25 -0.25,-20.25 -0.25,-19.75 3.5,-19.75 ; 3.5,-18.25 -0.25,-18.25 -0.25,-17.75 3.5,-17.75 ; 3.5,-16.25 -0.25,-16.25 -0.25,-15.75 3.5,-15.75 ; 3.5,-14.25 -0.25,-14.25 -0.25,-13.75 3.5,-13.75 ; 3.5,-12.25 -0.25,-12.25 -0.25,-11.75 3.5,-11.75 ; 3.5,-10.25 -0.25,-10.25 -0.25,-9.75 3.5,-9.75 ; 3.5,-8.25 -0.25,-8.25 -0.25,-7.75 3.5,-7.75 ; 3.5,-6.25 -0.25,-6.25 -0.25,-5.75 3.5,-5.75 ; 3.5,-4.25 -0.25,-4.25 -0.25,-3.75 3.5,-3.75 ; 3.5,-2.25 -0.25,-2.25 -0.25,-1.75 3.5,-1.75 ; 3.5,-0.25 -0.25,-0.25 -0.25,0.25 3.5,0.25 ; 5,-38.25 9.2,-38.25 9.2,-37.75 5,-37.75 ; 5,-36.25 9.2,-36.25 9.2,-35.75 5,-35.75 ; 5,-34.25 9.2,-34.25 9.2,-33.75 5,-33.75 ; 5,-32.25 9.2,-32.25 9.2,-31.75 5,-31.75 ; 5,-30.25 9.2,-30.25 9.2,-29.75 5,-29.75 ; 5,-28.25 9.2,-28.25 9.2,-27.75 5,-27.75 ; 5,-26.25 9.2,-26.25 9.2,-25.75 5,-25.75 ; 5,-24.25 9.2,-24.25 9.2,-23.75 5,-23.75 ; 5,-22.25 9.2,-22.25 9.2,-21.75 5,-21.75 ; 5,-20.25 9.2,-20.25 9.2,-19.75 5,-19.75 ; 5,-18.25 9.2,-18.25 9.2,-17.75 5,-17.75 ; 5,-16.25 9.2,-16.25 9.2,-15.75 5,-15.75 ; 5,-14.25 9.2,-14.25 9.2,-13.75 5,-13.75 ; 5,-12.25 9.2,-12.25 9.2,-11.75 5,-11.75 ; 5,-10.25 9.2,-10.25 9.2,-9.75 5,-9.75 ; 5,-8.25 9.2,-8.25 9.2,-7.75 5,-7.75 ; 5,-6.25 9.2,-6.25 9.2,-5.75 5,-5.75 ; 5,-4.25 9.2,-4.25 9.2,-3.75 5,-3.75 ; 5,-2.25 9.2,-2.25 9.2,-1.75 5,-1.75 ; 5,-0.25 9.2,-0.25 9.2,0.25 5,0.25 ; 3.5,-39 5,-39 5,1 3.875,1 3.5,0.625 3.5,-39
  text "'.Designator'" at 5.006,-22.642 h0.9
Top Courtyard:
  lines w0.254: -1.5,-39.5 9.7,-39.5 9.7,1.5 -1.5,1.5 -1.5,-39.5
Top Designator:
  text ".Designator" at -3.518,-19.508 h1.52

## PinHeader_2x20_P2.00mm_Vertical [mm]
pads (40):
  rect 1.35x1.35 hole 0.8: 1(0,0)
  round 1.35 hole 0.8: 2(2,0) 3(0,-2) 4(2,-2) 5(0,-4) 6(2,-4) 7(0,-6) 8(2,-6) 9(0,-8) 10(2,-8) 11(0,-10) 12(2,-10) 13(0,-12) 14(2,-12) 15(0,-14) 16(2,-14) 17(0,-16) 18(2,-16) 19(0,-18) 20(2,-18) 21(0,-20) 22(2,-20) 23(0,-22) 24(2,-22) 25(0,-24) 26(2,-24) 27(0,-26) 28(2,-26) 29(0,-28) 30(2,-28) 31(0,-30) 32(2,-30) 33(0,-32) 34(2,-32) 35(0,-34) 36(2,-34) 37(0,-36) 38(2,-36) 39(0,-38) 40(2,-38)
F.SilkS:
  lines w0.254: -1.11,0 -1.11,1.11 0,1.11 ; -1.11,-39.11 3.11,-39.11 3.11,1.11 1,1.11 1,-1 -1.11,-1 -1.11,-39.11
Top Assembly:
  lines w0.254: -1,-39 3,-39 3,1 0,1 -1,0 -1,-39
  text "'.Designator'" at 1.84,-23.047 h1
Top Courtyard:
  lines w0.254: -1.5,-39.5 3.5,-39.5 3.5,1.5 -1.5,1.5 -1.5,-39.5
Top Designator:
  text ".Designator" at -6.618,-19.508 h1.52

## PinHeader_2x20_P2.00mm_Vertical_SMD [mm]
pads (40):
  rect 2.58x1 smd: 1(-2.085,19) 2(2.085,19) 3(-2.085,17) 4(2.085,17) 5(-2.085,15) 6(2.085,15) 7(-2.085,13) 8(2.085,13) 9(-2.085,11) 10(2.085,11) 11(-2.085,9) 12(2.085,9) 13(-2.085,7) 14(2.085,7) 15(-2.085,5) 16(2.085,5) 17(-2.085,3) 18(2.085,3) 19(-2.085,1) 20(2.085,1) 21(-2.085,-1) 22(2.085,-1) 23(-2.085,-3) 24(2.085,-3) 25(-2.085,-5) 26(2.085,-5) 27(-2.085,-7) 28(2.085,-7) 29(-2.085,-9) 30(2.085,-9) 31(-2.085,-11) 32(2.085,-11) 33(-2.085,-13) 34(2.085,-13) 35(-2.085,-15) 36(2.085,-15) 37(-2.085,-17) 38(2.085,-17) 39(-2.085,-19) 40(2.085,-19)
F.SilkS:
  lines w0.254: -3.315,19.81 -2.11,19.81 -2.11,20.11 2.11,20.11 2.11,19.81 ; -2.11,-19.81 -2.11,-20.11 2.11,-20.11 2.11,-19.81 ; -2.11,-18.19 -2.11,-17.81 ; -2.11,-16.19 -2.11,-15.81 ; -2.11,-14.19 -2.11,-13.81 ; -2.11,-12.19 -2.11,-11.81 ; -2.11,-10.19 -2.11,-9.81 ; -2.11,-8.19 -2.11,-7.81 ; -2.11,-6.19 -2.11,-5.81 ; -2.11,-4.19 -2.11,-3.81 ; -2.11,-2.19 -2.11,-1.81 ; -2.11,-0.19 -2.11,0.19 ; -2.11,1.81 -2.11,2.19 ; -2.11,3.81 -2.11,4.19 ; -2.11,5.81 -2.11,6.19 ; -2.11,7.81 -2.11,8.19 ; -2.11,9.81 -2.11,10.19 ; -2.11,11.81 -2.11,12.19 ; -2.11,13.81 -2.11,14.19 ; -2.11,15.81 -2.11,16.19 ; -2.11,17.81 -2.11,18.19 ; 2.11,-18.19 2.11,-17.81 ; 2.11,-16.19 2.11,-15.81 ; 2.11,-14.19 2.11,-13.81 ; 2.11,-12.19 2.11,-11.81 ; 2.11,-10.19 2.11,-9.81 ; 2.11,-8.19 2.11,-7.81 ; 2.11,-6.19 2.11,-5.81 ; 2.11,-4.19 2.11,-3.81 ; 2.11,-2.19 2.11,-1.81 ; 2.11,-0.19 2.11,0.19 ; 2.11,1.81 2.11,2.19 ; 2.11,3.81 2.11,4.19 ; 2.11,5.81 2.11,6.19 ; 2.11,7.81 2.11,8.19 ; 2.11,9.81 2.11,10.19 ; 2.11,11.81 2.11,12.19 ; 2.11,13.81 2.11,14.19 ; 2.11,15.81 2.11,16.19 ; 2.11,17.81 2.11,18.19
Top Assembly:
  lines w0.254: -2,-19.25 -2.875,-19.25 -2.875,-18.75 -2,-18.75 ; -2,-17.25 -2.875,-17.25 -2.875,-16.75 -2,-16.75 ; -2,-15.25 -2.875,-15.25 -2.875,-14.75 -2,-14.75 ; -2,-13.25 -2.875,-13.25 -2.875,-12.75 -2,-12.75 ; -2,-11.25 -2.875,-11.25 -2.875,-10.75 -2,-10.75 ; -2,-9.25 -2.875,-9.25 -2.875,-8.75 -2,-8.75 ; -2,-7.25 -2.875,-7.25 -2.875,-6.75 -2,-6.75 ; -2,-5.25 -2.875,-5.25 -2.875,-4.75 -2,-4.75 ; -2,-3.25 -2.875,-3.25 -2.875,-2.75 -2,-2.75 ; -2,-1.25 -2.875,-1.25 -2.875,-0.75 -2,-0.75 ; -2,0.75 -2.875,0.75 -2.875,1.25 -2,1.25 ; -2,2.75 -2.875,2.75 -2.875,3.25 -2,3.25 ; -2,4.75 -2.875,4.75 -2.875,5.25 -2,5.25 ; -2,6.75 -2.875,6.75 -2.875,7.25 -2,7.25 ; -2,8.75 -2.875,8.75 -2.875,9.25 -2,9.25 ; -2,10.75 -2.875,10.75 -2.875,11.25 -2,11.25 ; -2,12.75 -2.875,12.75 -2.875,13.25 -2,13.25 ; -2,14.75 -2.875,14.75 -2.875,15.25 -2,15.25 ; -2,16.75 -2.875,16.75 -2.875,17.25 -2,17.25 ; -2,18.75 -2.875,18.75 -2.875,19.25 -2,19.25 ; 2,-19.25 2.875,-19.25 2.875,-18.75 2,-18.75 ; 2,-17.25 2.875,-17.25 2.875,-16.75 2,-16.75 ; 2,-15.25 2.875,-15.25 2.875,-14.75 2,-14.75 ; 2,-13.25 2.875,-13.25 2.875,-12.75 2,-12.75 ; 2,-11.25 2.875,-11.25 2.875,-10.75 2,-10.75 ; 2,-9.25 2.875,-9.25 2.875,-8.75 2,-8.75 ; 2,-7.25 2.875,-7.25 2.875,-6.75 2,-6.75 ; 2,-5.25 2.875,-5.25 2.875,-4.75 2,-4.75 ; 2,-3.25 2.875,-3.25 2.875,-2.75 2,-2.75 ; 2,-1.25 2.875,-1.25 2.875,-0.75 2,-0.75 ; 2,0.75 2.875,0.75 2.875,1.25 2,1.25 ; 2,2.75 2.875,2.75 2.875,3.25 2,3.25 ; 2,4.75 2.875,4.75 2.875,5.25 2,5.25 ; 2,6.75 2.875,6.75 2.875,7.25 2,7.25 ; 2,8.75 2.875,8.75 2.875,9.25 2,9.25 ; 2,10.75 2.875,10.75 2.875,11.25 2,11.25 ; 2,12.75 2.875,12.75 2.875,13.25 2,13.25 ; 2,14.75 2.875,14.75 2.875,15.25 2,15.25 ; 2,16.75 2.875,16.75 2.875,17.25 2,17.25 ; 2,18.75 2.875,18.75 2.875,19.25 2,19.25 ; -2,19.25 -2,-20 2,-20 2,20 -1.25,20 -2,19.25
  text "'.Designator'" at 0.84,-4.047 h1
Top Courtyard:
  lines w0.254: -4.88,-20.5 4.88,-20.5 4.88,20.5 -4.88,20.5 -4.88,-20.5
Top Designator:
  text ".Designator" at -7.618,-0.508 h1.52

## PinHeader_2x21_P2.00mm_Horizontal [mm]
pads (42):
  rect 1.35x1.35 hole 0.8: 1(0,0)
  round 1.35 hole 0.8: 2(2,0) 3(0,-2) 4(2,-2) 5(0,-4) 6(2,-4) 7(0,-6) 8(2,-6) 9(0,-8) 10(2,-8) 11(0,-10) 12(2,-10) 13(0,-12) 14(2,-12) 15(0,-14) 16(2,-14) 17(0,-16) 18(2,-16) 19(0,-18) 20(2,-18) 21(0,-20) 22(2,-20) 23(0,-22) 24(2,-22) 25(0,-24) 26(2,-24) 27(0,-26) 28(2,-26) 29(0,-28) 30(2,-28) 31(0,-30) 32(2,-30) 33(0,-32) 34(2,-32) 35(0,-34) 36(2,-34) 37(0,-36) 38(2,-36) 39(0,-38) 40(2,-38) 41(0,-40) 42(2,-40)
F.SilkS:
  drawing of 174 lines, arcs and shapes, not listed
Top Assembly:
  lines w0.254: 3.5,-40.25 -0.25,-40.25 -0.25,-39.75 3.5,-39.75 ; 3.5,-38.25 -0.25,-38.25 -0.25,-37.75 3.5,-37.75 ; 3.5,-36.25 -0.25,-36.25 -0.25,-35.75 3.5,-35.75 ; 3.5,-34.25 -0.25,-34.25 -0.25,-33.75 3.5,-33.75 ; 3.5,-32.25 -0.25,-32.25 -0.25,-31.75 3.5,-31.75 ; 3.5,-30.25 -0.25,-30.25 -0.25,-29.75 3.5,-29.75 ; 3.5,-28.25 -0.25,-28.25 -0.25,-27.75 3.5,-27.75 ; 3.5,-26.25 -0.25,-26.25 -0.25,-25.75 3.5,-25.75 ; 3.5,-24.25 -0.25,-24.25 -0.25,-23.75 3.5,-23.75 ; 3.5,-22.25 -0.25,-22.25 -0.25,-21.75 3.5,-21.75 ; 3.5,-20.25 -0.25,-20.25 -0.25,-19.75 3.5,-19.75 ; 3.5,-18.25 -0.25,-18.25 -0.25,-17.75 3.5,-17.75 ; 3.5,-16.25 -0.25,-16.25 -0.25,-15.75 3.5,-15.75 ; 3.5,-14.25 -0.25,-14.25 -0.25,-13.75 3.5,-13.75 ; 3.5,-12.25 -0.25,-12.25 -0.25,-11.75 3.5,-11.75 ; 3.5,-10.25 -0.25,-10.25 -0.25,-9.75 3.5,-9.75 ; 3.5,-8.25 -0.25,-8.25 -0.25,-7.75 3.5,-7.75 ; 3.5,-6.25 -0.25,-6.25 -0.25,-5.75 3.5,-5.75 ; 3.5,-4.25 -0.25,-4.25 -0.25,-3.75 3.5,-3.75 ; 3.5,-2.25 -0.25,-2.25 -0.25,-1.75 3.5,-1.75 ; 3.5,-0.25 -0.25,-0.25 -0.25,0.25 3.5,0.25 ; 5,-40.25 9.2,-40.25 9.2,-39.75 5,-39.75 ; 5,-38.25 9.2,-38.25 9.2,-37.75 5,-37.75 ; 5,-36.25 9.2,-36.25 9.2,-35.75 5,-35.75 ; 5,-34.25 9.2,-34.25 9.2,-33.75 5,-33.75 ; 5,-32.25 9.2,-32.25 9.2,-31.75 5,-31.75 ; 5,-30.25 9.2,-30.25 9.2,-29.75 5,-29.75 ; 5,-28.25 9.2,-28.25 9.2,-27.75 5,-27.75 ; 5,-26.25 9.2,-26.25 9.2,-25.75 5,-25.75 ; 5,-24.25 9.2,-24.25 9.2,-23.75 5,-23.75 ; 5,-22.25 9.2,-22.25 9.2,-21.75 5,-21.75 ; 5,-20.25 9.2,-20.25 9.2,-19.75 5,-19.75 ; 5,-18.25 9.2,-18.25 9.2,-17.75 5,-17.75 ; 5,-16.25 9.2,-16.25 9.2,-15.75 5,-15.75 ; 5,-14.25 9.2,-14.25 9.2,-13.75 5,-13.75 ; 5,-12.25 9.2,-12.25 9.2,-11.75 5,-11.75 ; 5,-10.25 9.2,-10.25 9.2,-9.75 5,-9.75 ; 5,-8.25 9.2,-8.25 9.2,-7.75 5,-7.75 ; 5,-6.25 9.2,-6.25 9.2,-5.75 5,-5.75 ; 5,-4.25 9.2,-4.25 9.2,-3.75 5,-3.75 ; 5,-2.25 9.2,-2.25 9.2,-1.75 5,-1.75 ; 5,-0.25 9.2,-0.25 9.2,0.25 5,0.25 ; 3.5,-41 5,-41 5,1 3.875,1 3.5,0.625 3.5,-41
  text "'.Designator'" at 5.006,-23.642 h0.9
Top Courtyard:
  lines w0.254: -1.5,-41.5 9.7,-41.5 9.7,1.5 -1.5,1.5 -1.5,-41.5
Top Designator:
  text ".Designator" at -3.518,-20.508 h1.52

## PinHeader_2x21_P2.00mm_Vertical [mm]
pads (42):
  rect 1.35x1.35 hole 0.8: 1(0,0)
  round 1.35 hole 0.8: 2(2,0) 3(0,-2) 4(2,-2) 5(0,-4) 6(2,-4) 7(0,-6) 8(2,-6) 9(0,-8) 10(2,-8) 11(0,-10) 12(2,-10) 13(0,-12) 14(2,-12) 15(0,-14) 16(2,-14) 17(0,-16) 18(2,-16) 19(0,-18) 20(2,-18) 21(0,-20) 22(2,-20) 23(0,-22) 24(2,-22) 25(0,-24) 26(2,-24) 27(0,-26) 28(2,-26) 29(0,-28) 30(2,-28) 31(0,-30) 32(2,-30) 33(0,-32) 34(2,-32) 35(0,-34) 36(2,-34) 37(0,-36) 38(2,-36) 39(0,-38) 40(2,-38) 41(0,-40) 42(2,-40)
F.SilkS:
  lines w0.254: -1.11,0 -1.11,1.11 0,1.11 ; -1.11,-41.11 3.11,-41.11 3.11,1.11 1,1.11 1,-1 -1.11,-1 -1.11,-41.11
Top Assembly:
  lines w0.254: -1,-41 3,-41 3,1 0,1 -1,0 -1,-41
  text "'.Designator'" at 1.84,-24.047 h1
Top Courtyard:
  lines w0.254: -1.5,-41.5 3.5,-41.5 3.5,1.5 -1.5,1.5 -1.5,-41.5
Top Designator:
  text ".Designator" at -6.618,-20.508 h1.52

## PinHeader_2x21_P2.00mm_Vertical_SMD [mm]
pads (42):
  rect 2.58x1 smd: 1(-2.085,20) 2(2.085,20) 3(-2.085,18) 4(2.085,18) 5(-2.085,16) 6(2.085,16) 7(-2.085,14) 8(2.085,14) 9(-2.085,12) 10(2.085,12) 11(-2.085,10) 12(2.085,10) 13(-2.085,8) 14(2.085,8) 15(-2.085,6) 16(2.085,6) 17(-2.085,4) 18(2.085,4) 19(-2.085,2) 20(2.085,2) 21(-2.085,0) 22(2.085,0) 23(-2.085,-2) 24(2.085,-2) 25(-2.085,-4) 26(2.085,-4) 27(-2.085,-6) 28(2.085,-6) 29(-2.085,-8) 30(2.085,-8) 31(-2.085,-10) 32(2.085,-10) 33(-2.085,-12) 34(2.085,-12) 35(-2.085,-14) 36(2.085,-14) 37(-2.085,-16) 38(2.085,-16) 39(-2.085,-18) 40(2.085,-18) 41(-2.085,-20) 42(2.085,-20)
F.SilkS:
  lines w0.254: -3.315,20.81 -2.11,20.81 -2.11,21.11 2.11,21.11 2.11,20.81 ; -2.11,-20.81 -2.11,-21.11 2.11,-21.11 2.11,-20.81 ; -2.11,-19.19 -2.11,-18.81 ; -2.11,-17.19 -2.11,-16.81 ; -2.11,-15.19 -2.11,-14.81 ; -2.11,-13.19 -2.11,-12.81 ; -2.11,-11.19 -2.11,-10.81 ; -2.11,-9.19 -2.11,-8.81 ; -2.11,-7.19 -2.11,-6.81 ; -2.11,-5.19 -2.11,-4.81 ; -2.11,-3.19 -2.11,-2.81 ; -2.11,-1.19 -2.11,-0.81 ; -2.11,0.81 -2.11,1.19 ; -2.11,2.81 -2.11,3.19 ; -2.11,4.81 -2.11,5.19 ; -2.11,6.81 -2.11,7.19 ; -2.11,8.81 -2.11,9.19 ; -2.11,10.81 -2.11,11.19 ; -2.11,12.81 -2.11,13.19 ; -2.11,14.81 -2.11,15.19 ; -2.11,16.81 -2.11,17.19 ; -2.11,18.81 -2.11,19.19 ; 2.11,-19.19 2.11,-18.81 ; 2.11,-17.19 2.11,-16.81 ; 2.11,-15.19 2.11,-14.81 ; 2.11,-13.19 2.11,-12.81 ; 2.11,-11.19 2.11,-10.81 ; 2.11,-9.19 2.11,-8.81 ; 2.11,-7.19 2.11,-6.81 ; 2.11,-5.19 2.11,-4.81 ; 2.11,-3.19 2.11,-2.81 ; 2.11,-1.19 2.11,-0.81 ; 2.11,0.81 2.11,1.19 ; 2.11,2.81 2.11,3.19 ; 2.11,4.81 2.11,5.19 ; 2.11,6.81 2.11,7.19 ; 2.11,8.81 2.11,9.19 ; 2.11,10.81 2.11,11.19 ; 2.11,12.81 2.11,13.19 ; 2.11,14.81 2.11,15.19 ; 2.11,16.81 2.11,17.19 ; 2.11,18.81 2.11,19.19
Top Assembly:
  lines w0.254: -2,-20.25 -2.875,-20.25 -2.875,-19.75 -2,-19.75 ; -2,-18.25 -2.875,-18.25 -2.875,-17.75 -2,-17.75 ; -2,-16.25 -2.875,-16.25 -2.875,-15.75 -2,-15.75 ; -2,-14.25 -2.875,-14.25 -2.875,-13.75 -2,-13.75 ; -2,-12.25 -2.875,-12.25 -2.875,-11.75 -2,-11.75 ; -2,-10.25 -2.875,-10.25 -2.875,-9.75 -2,-9.75 ; -2,-8.25 -2.875,-8.25 -2.875,-7.75 -2,-7.75 ; -2,-6.25 -2.875,-6.25 -2.875,-5.75 -2,-5.75 ; -2,-4.25 -2.875,-4.25 -2.875,-3.75 -2,-3.75 ; -2,-2.25 -2.875,-2.25 -2.875,-1.75 -2,-1.75 ; -2,-0.25 -2.875,-0.25 -2.875,0.25 -2,0.25 ; -2,1.75 -2.875,1.75 -2.875,2.25 -2,2.25 ; -2,3.75 -2.875,3.75 -2.875,4.25 -2,4.25 ; -2,5.75 -2.875,5.75 -2.875,6.25 -2,6.25 ; -2,7.75 -2.875,7.75 -2.875,8.25 -2,8.25 ; -2,9.75 -2.875,9.75 -2.875,10.25 -2,10.25 ; -2,11.75 -2.875,11.75 -2.875,12.25 -2,12.25 ; -2,13.75 -2.875,13.75 -2.875,14.25 -2,14.25 ; -2,15.75 -2.875,15.75 -2.875,16.25 -2,16.25 ; -2,17.75 -2.875,17.75 -2.875,18.25 -2,18.25 ; -2,19.75 -2.875,19.75 -2.875,20.25 -2,20.25 ; 2,-20.25 2.875,-20.25 2.875,-19.75 2,-19.75 ; 2,-18.25 2.875,-18.25 2.875,-17.75 2,-17.75 ; 2,-16.25 2.875,-16.25 2.875,-15.75 2,-15.75 ; 2,-14.25 2.875,-14.25 2.875,-13.75 2,-13.75 ; 2,-12.25 2.875,-12.25 2.875,-11.75 2,-11.75 ; 2,-10.25 2.875,-10.25 2.875,-9.75 2,-9.75 ; 2,-8.25 2.875,-8.25 2.875,-7.75 2,-7.75 ; 2,-6.25 2.875,-6.25 2.875,-5.75 2,-5.75 ; 2,-4.25 2.875,-4.25 2.875,-3.75 2,-3.75 ; 2,-2.25 2.875,-2.25 2.875,-1.75 2,-1.75 ; 2,-0.25 2.875,-0.25 2.875,0.25 2,0.25 ; 2,1.75 2.875,1.75 2.875,2.25 2,2.25 ; 2,3.75 2.875,3.75 2.875,4.25 2,4.25 ; 2,5.75 2.875,5.75 2.875,6.25 2,6.25 ; 2,7.75 2.875,7.75 2.875,8.25 2,8.25 ; 2,9.75 2.875,9.75 2.875,10.25 2,10.25 ; 2,11.75 2.875,11.75 2.875,12.25 2,12.25 ; 2,13.75 2.875,13.75 2.875,14.25 2,14.25 ; 2,15.75 2.875,15.75 2.875,16.25 2,16.25 ; 2,17.75 2.875,17.75 2.875,18.25 2,18.25 ; 2,19.75 2.875,19.75 2.875,20.25 2,20.25 ; -2,20.25 -2,-21 2,-21 2,21 -1.25,21 -2,20.25
  text "'.Designator'" at 0.84,-4.047 h1
Top Courtyard:
  lines w0.254: -4.88,-21.5 4.88,-21.5 4.88,21.5 -4.88,21.5 -4.88,-21.5
Top Designator:
  text ".Designator" at -7.618,-0.508 h1.52

## PinHeader_2x22_P2.00mm_Horizontal [mm]
pads (44):
  rect 1.35x1.35 hole 0.8: 1(0,0)
  round 1.35 hole 0.8: 2(2,0) 3(0,-2) 4(2,-2) 5(0,-4) 6(2,-4) 7(0,-6) 8(2,-6) 9(0,-8) 10(2,-8) 11(0,-10) 12(2,-10) 13(0,-12) 14(2,-12) 15(0,-14) 16(2,-14) 17(0,-16) 18(2,-16) 19(0,-18) 20(2,-18) 21(0,-20) 22(2,-20) 23(0,-22) 24(2,-22) 25(0,-24) 26(2,-24) 27(0,-26) 28(2,-26) 29(0,-28) 30(2,-28) 31(0,-30) 32(2,-30) 33(0,-32) 34(2,-32) 35(0,-34) 36(2,-34) 37(0,-36) 38(2,-36) 39(0,-38) 40(2,-38) 41(0,-40) 42(2,-40) 43(0,-42) 44(2,-42)
F.SilkS:
  drawing of 182 lines, arcs and shapes, not listed
Top Assembly:
  lines w0.254: 3.5,-42.25 -0.25,-42.25 -0.25,-41.75 3.5,-41.75 ; 3.5,-40.25 -0.25,-40.25 -0.25,-39.75 3.5,-39.75 ; 3.5,-38.25 -0.25,-38.25 -0.25,-37.75 3.5,-37.75 ; 3.5,-36.25 -0.25,-36.25 -0.25,-35.75 3.5,-35.75 ; 3.5,-34.25 -0.25,-34.25 -0.25,-33.75 3.5,-33.75 ; 3.5,-32.25 -0.25,-32.25 -0.25,-31.75 3.5,-31.75 ; 3.5,-30.25 -0.25,-30.25 -0.25,-29.75 3.5,-29.75 ; 3.5,-28.25 -0.25,-28.25 -0.25,-27.75 3.5,-27.75 ; 3.5,-26.25 -0.25,-26.25 -0.25,-25.75 3.5,-25.75 ; 3.5,-24.25 -0.25,-24.25 -0.25,-23.75 3.5,-23.75 ; 3.5,-22.25 -0.25,-22.25 -0.25,-21.75 3.5,-21.75 ; 3.5,-20.25 -0.25,-20.25 -0.25,-19.75 3.5,-19.75 ; 3.5,-18.25 -0.25,-18.25 -0.25,-17.75 3.5,-17.75 ; 3.5,-16.25 -0.25,-16.25 -0.25,-15.75 3.5,-15.75 ; 3.5,-14.25 -0.25,-14.25 -0.25,-13.75 3.5,-13.75 ; 3.5,-12.25 -0.25,-12.25 -0.25,-11.75 3.5,-11.75 ; 3.5,-10.25 -0.25,-10.25 -0.25,-9.75 3.5,-9.75 ; 3.5,-8.25 -0.25,-8.25 -0.25,-7.75 3.5,-7.75 ; 3.5,-6.25 -0.25,-6.25 -0.25,-5.75 3.5,-5.75 ; 3.5,-4.25 -0.25,-4.25 -0.25,-3.75 3.5,-3.75 ; 3.5,-2.25 -0.25,-2.25 -0.25,-1.75 3.5,-1.75 ; 3.5,-0.25 -0.25,-0.25 -0.25,0.25 3.5,0.25 ; 5,-42.25 9.2,-42.25 9.2,-41.75 5,-41.75 ; 5,-40.25 9.2,-40.25 9.2,-39.75 5,-39.75 ; 5,-38.25 9.2,-38.25 9.2,-37.75 5,-37.75 ; 5,-36.25 9.2,-36.25 9.2,-35.75 5,-35.75 ; 5,-34.25 9.2,-34.25 9.2,-33.75 5,-33.75 ; 5,-32.25 9.2,-32.25 9.2,-31.75 5,-31.75 ; 5,-30.25 9.2,-30.25 9.2,-29.75 5,-29.75 ; 5,-28.25 9.2,-28.25 9.2,-27.75 5,-27.75 ; 5,-26.25 9.2,-26.25 9.2,-25.75 5,-25.75 ; 5,-24.25 9.2,-24.25 9.2,-23.75 5,-23.75 ; 5,-22.25 9.2,-22.25 9.2,-21.75 5,-21.75 ; 5,-20.25 9.2,-20.25 9.2,-19.75 5,-19.75 ; 5,-18.25 9.2,-18.25 9.2,-17.75 5,-17.75 ; 5,-16.25 9.2,-16.25 9.2,-15.75 5,-15.75 ; 5,-14.25 9.2,-14.25 9.2,-13.75 5,-13.75 ; 5,-12.25 9.2,-12.25 9.2,-11.75 5,-11.75 ; 5,-10.25 9.2,-10.25 9.2,-9.75 5,-9.75 ; 5,-8.25 9.2,-8.25 9.2,-7.75 5,-7.75 ; 5,-6.25 9.2,-6.25 9.2,-5.75 5,-5.75 ; 5,-4.25 9.2,-4.25 9.2,-3.75 5,-3.75 ; 5,-2.25 9.2,-2.25 9.2,-1.75 5,-1.75 ; 5,-0.25 9.2,-0.25 9.2,0.25 5,0.25 ; 3.5,-43 5,-43 5,1 3.875,1 3.5,0.625 3.5,-43
  text "'.Designator'" at 5.006,-24.642 h0.9
Top Courtyard:
  lines w0.254: -1.5,-43.5 9.7,-43.5 9.7,1.5 -1.5,1.5 -1.5,-43.5
Top Designator:
  text ".Designator" at -3.518,-21.508 h1.52

## PinHeader_2x22_P2.00mm_Vertical [mm]
pads (44):
  rect 1.35x1.35 hole 0.8: 1(0,0)
  round 1.35 hole 0.8: 2(2,0) 3(0,-2) 4(2,-2) 5(0,-4) 6(2,-4) 7(0,-6) 8(2,-6) 9(0,-8) 10(2,-8) 11(0,-10) 12(2,-10) 13(0,-12) 14(2,-12) 15(0,-14) 16(2,-14) 17(0,-16) 18(2,-16) 19(0,-18) 20(2,-18) 21(0,-20) 22(2,-20) 23(0,-22) 24(2,-22) 25(0,-24) 26(2,-24) 27(0,-26) 28(2,-26) 29(0,-28) 30(2,-28) 31(0,-30) 32(2,-30) 33(0,-32) 34(2,-32) 35(0,-34) 36(2,-34) 37(0,-36) 38(2,-36) 39(0,-38) 40(2,-38) 41(0,-40) 42(2,-40) 43(0,-42) 44(2,-42)
F.SilkS:
  lines w0.254: -1.11,0 -1.11,1.11 0,1.11 ; -1.11,-43.11 3.11,-43.11 3.11,1.11 1,1.11 1,-1 -1.11,-1 -1.11,-43.11
Top Assembly:
  lines w0.254: -1,-43 3,-43 3,1 0,1 -1,0 -1,-43
  text "'.Designator'" at 1.84,-25.047 h1
Top Courtyard:
  lines w0.254: -1.5,-43.5 3.5,-43.5 3.5,1.5 -1.5,1.5 -1.5,-43.5
Top Designator:
  text ".Designator" at -6.618,-21.508 h1.52

## PinHeader_2x22_P2.00mm_Vertical_SMD [mm]
pads (44):
  rect 2.58x1 smd: 1(-2.085,21) 2(2.085,21) 3(-2.085,19) 4(2.085,19) 5(-2.085,17) 6(2.085,17) 7(-2.085,15) 8(2.085,15) 9(-2.085,13) 10(2.085,13) 11(-2.085,11) 12(2.085,11) 13(-2.085,9) 14(2.085,9) 15(-2.085,7) 16(2.085,7) 17(-2.085,5) 18(2.085,5) 19(-2.085,3) 20(2.085,3) 21(-2.085,1) 22(2.085,1) 23(-2.085,-1) 24(2.085,-1) 25(-2.085,-3) 26(2.085,-3) 27(-2.085,-5) 28(2.085,-5) 29(-2.085,-7) 30(2.085,-7) 31(-2.085,-9) 32(2.085,-9) 33(-2.085,-11) 34(2.085,-11) 35(-2.085,-13) 36(2.085,-13) 37(-2.085,-15) 38(2.085,-15) 39(-2.085,-17) 40(2.085,-17) 41(-2.085,-19) 42(2.085,-19) 43(-2.085,-21) 44(2.085,-21)
F.SilkS:
  lines w0.254: -3.315,21.81 -2.11,21.81 -2.11,22.11 2.11,22.11 2.11,21.81 ; -2.11,-21.81 -2.11,-22.11 2.11,-22.11 2.11,-21.81 ; -2.11,-20.19 -2.11,-19.81 ; -2.11,-18.19 -2.11,-17.81 ; -2.11,-16.19 -2.11,-15.81 ; -2.11,-14.19 -2.11,-13.81 ; -2.11,-12.19 -2.11,-11.81 ; -2.11,-10.19 -2.11,-9.81 ; -2.11,-8.19 -2.11,-7.81 ; -2.11,-6.19 -2.11,-5.81 ; -2.11,-4.19 -2.11,-3.81 ; -2.11,-2.19 -2.11,-1.81 ; -2.11,-0.19 -2.11,0.19 ; -2.11,1.81 -2.11,2.19 ; -2.11,3.81 -2.11,4.19 ; -2.11,5.81 -2.11,6.19 ; -2.11,7.81 -2.11,8.19 ; -2.11,9.81 -2.11,10.19 ; -2.11,11.81 -2.11,12.19 ; -2.11,13.81 -2.11,14.19 ; -2.11,15.81 -2.11,16.19 ; -2.11,17.81 -2.11,18.19 ; -2.11,19.81 -2.11,20.19 ; 2.11,-20.19 2.11,-19.81 ; 2.11,-18.19 2.11,-17.81 ; 2.11,-16.19 2.11,-15.81 ; 2.11,-14.19 2.11,-13.81 ; 2.11,-12.19 2.11,-11.81 ; 2.11,-10.19 2.11,-9.81 ; 2.11,-8.19 2.11,-7.81 ; 2.11,-6.19 2.11,-5.81 ; 2.11,-4.19 2.11,-3.81 ; 2.11,-2.19 2.11,-1.81 ; 2.11,-0.19 2.11,0.19 ; 2.11,1.81 2.11,2.19 ; 2.11,3.81 2.11,4.19 ; 2.11,5.81 2.11,6.19 ; 2.11,7.81 2.11,8.19 ; 2.11,9.81 2.11,10.19 ; 2.11,11.81 2.11,12.19 ; 2.11,13.81 2.11,14.19 ; 2.11,15.81 2.11,16.19 ; 2.11,17.81 2.11,18.19 ; 2.11,19.81 2.11,20.19
Top Assembly:
  lines w0.254: -2,-21.25 -2.875,-21.25 -2.875,-20.75 -2,-20.75 ; -2,-19.25 -2.875,-19.25 -2.875,-18.75 -2,-18.75 ; -2,-17.25 -2.875,-17.25 -2.875,-16.75 -2,-16.75 ; -2,-15.25 -2.875,-15.25 -2.875,-14.75 -2,-14.75 ; -2,-13.25 -2.875,-13.25 -2.875,-12.75 -2,-12.75 ; -2,-11.25 -2.875,-11.25 -2.875,-10.75 -2,-10.75 ; -2,-9.25 -2.875,-9.25 -2.875,-8.75 -2,-8.75 ; -2,-7.25 -2.875,-7.25 -2.875,-6.75 -2,-6.75 ; -2,-5.25 -2.875,-5.25 -2.875,-4.75 -2,-4.75 ; -2,-3.25 -2.875,-3.25 -2.875,-2.75 -2,-2.75 ; -2,-1.25 -2.875,-1.25 -2.875,-0.75 -2,-0.75 ; -2,0.75 -2.875,0.75 -2.875,1.25 -2,1.25 ; -2,2.75 -2.875,2.75 -2.875,3.25 -2,3.25 ; -2,4.75 -2.875,4.75 -2.875,5.25 -2,5.25 ; -2,6.75 -2.875,6.75 -2.875,7.25 -2,7.25 ; -2,8.75 -2.875,8.75 -2.875,9.25 -2,9.25 ; -2,10.75 -2.875,10.75 -2.875,11.25 -2,11.25 ; -2,12.75 -2.875,12.75 -2.875,13.25 -2,13.25 ; -2,14.75 -2.875,14.75 -2.875,15.25 -2,15.25 ; -2,16.75 -2.875,16.75 -2.875,17.25 -2,17.25 ; -2,18.75 -2.875,18.75 -2.875,19.25 -2,19.25 ; -2,20.75 -2.875,20.75 -2.875,21.25 -2,21.25 ; 2,-21.25 2.875,-21.25 2.875,-20.75 2,-20.75 ; 2,-19.25 2.875,-19.25 2.875,-18.75 2,-18.75 ; 2,-17.25 2.875,-17.25 2.875,-16.75 2,-16.75 ; 2,-15.25 2.875,-15.25 2.875,-14.75 2,-14.75 ; 2,-13.25 2.875,-13.25 2.875,-12.75 2,-12.75 ; 2,-11.25 2.875,-11.25 2.875,-10.75 2,-10.75 ; 2,-9.25 2.875,-9.25 2.875,-8.75 2,-8.75 ; 2,-7.25 2.875,-7.25 2.875,-6.75 2,-6.75 ; 2,-5.25 2.875,-5.25 2.875,-4.75 2,-4.75 ; 2,-3.25 2.875,-3.25 2.875,-2.75 2,-2.75 ; 2,-1.25 2.875,-1.25 2.875,-0.75 2,-0.75 ; 2,0.75 2.875,0.75 2.875,1.25 2,1.25 ; 2,2.75 2.875,2.75 2.875,3.25 2,3.25 ; 2,4.75 2.875,4.75 2.875,5.25 2,5.25 ; 2,6.75 2.875,6.75 2.875,7.25 2,7.25 ; 2,8.75 2.875,8.75 2.875,9.25 2,9.25 ; 2,10.75 2.875,10.75 2.875,11.25 2,11.25 ; 2,12.75 2.875,12.75 2.875,13.25 2,13.25 ; 2,14.75 2.875,14.75 2.875,15.25 2,15.25 ; 2,16.75 2.875,16.75 2.875,17.25 2,17.25 ; 2,18.75 2.875,18.75 2.875,19.25 2,19.25 ; 2,20.75 2.875,20.75 2.875,21.25 2,21.25 ; -2,21.25 -2,-22 2,-22 2,22 -1.25,22 -2,21.25
  text "'.Designator'" at 0.84,-4.047 h1
Top Courtyard:
  lines w0.254: -4.88,-22.5 4.88,-22.5 4.88,22.5 -4.88,22.5 -4.88,-22.5
Top Designator:
  text ".Designator" at -7.618,-0.508 h1.52